# Altium footprint library QSOP24.PcbLib: 1 footprints
Each footprint in its own frame and in the unit in brackets; x right, y up, seen from the top. Pads: shape width x height; smd on the part's side, far side on the other; paste and mask are expansions set on the pad; w line width, h text height; cw(c..) or ccw(c..) is an arc to the next point about the centre after c.
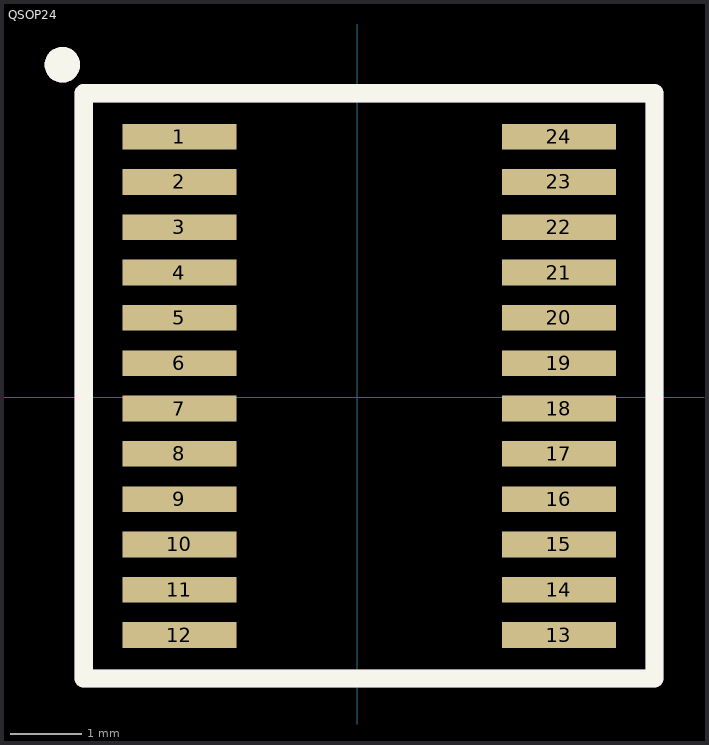
[diagram p0: the footprint, top view; thin cyan lines are the x and y axes]

## QSOP24 [mm]
pads (24):
  rect 1.6x0.36 smd mask+0.06: 1(-2.495,3.651) 2(-2.495,3.016) 3(-2.495,2.381) 4(-2.495,1.746) 5(-2.495,1.111) 6(-2.495,0.476) 7(-2.495,-0.159) 8(-2.495,-0.794) 9(-2.495,-1.429) 10(-2.495,-2.064) 11(-2.495,-2.699) 12(-2.495,-3.334) 13(2.825,-3.334) 14(2.825,-2.699) 15(2.825,-2.064) 16(2.825,-1.429) 17(2.825,-0.794) 18(2.825,-0.159) 19(2.825,0.476) 20(2.825,1.111) 21(2.825,1.746) 22(2.825,2.381) 23(2.825,3.016) 24(2.825,3.651)
Top Overlay:
  circle w0.25: c-4.135,4.659 r0.125
  lines w0.254: -3.835,-3.941 -3.835,4.259 4.165,4.259 4.165,-3.941 -3.835,-3.941
Mechanical 16:
  circle w0.25: c-4.135,4.659 r0.125
  lines w0.254: -3.835,-3.941 -3.835,4.259 4.165,4.259 4.165,-3.941 -3.835,-3.941
  text ".Designator" at -1.181,-0.379 h1.52